# Altium schematic symbol library WL-OSEN.SchLib: 2 symbols
Pins are listed as number, name and electrical type; pins without a type are passive.

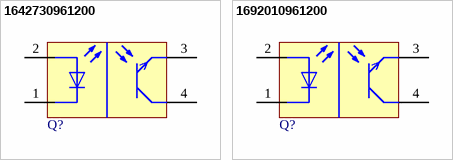
[diagram p0: symbols 1642730961200 to 1692010961200]

## 1642730961200
designator Q?, comment 1.2V, 0.3mA  (value not drawn)
WL-OSEN Optical Sensor - Reflective, SMT, size 2734, 1.2V, 0.3mA; Manufacturer Part Number: 1642730961200; Manufacturer: Wurth Elektronik; Case/Size Code: 2734; Forward Voltage Max: 1.6V; Collector Current Min: 0.1mA; Category: Optical Sensors; Match Code: WL-OSEN; ComponentLink1Description: Website Link; ComponentLink1URL: https://www.we-online.com/redexpert/article/1642730961200?ad; ComponentLink2Description: Datasheet Link; ComponentLink2URL: https://www.we-online.com/redexpert/spec/1642730961200?ad; Mount: Surface Mount; Operating Temperature Max: 85°C; Operating Temperature Min: -40°C; Packaging: Tape and Reel; Length: 3.4mm; Width: 2.7mm; Height: 1.5mm; Forward Voltage: 1.2V; Collector Current: 0.3mA
footprint WL-OSEN_2734
pins: 1 Cathode, 2 Anode, 3 Emitter, 4 Collector

## 1692010961200
designator Q?, comment 1.9V, 3mA  (value not drawn)
WL-OSEN Optical Sensor - Reflective, SMT, size 2016, 1.9V, 3mA; Manufacturer Part Number: 1692010961200; Manufacturer: Wurth Elektronik; Case/Size Code: 2016; Forward Voltage Max: 2.5V; Collector Current Min: 0.5mA; Category: Optical Sensors; Match Code: WL-OSEN; ComponentLink1Description: Website Link; ComponentLink1URL: https://www.we-online.com/redexpert/article/1692010961200?ad; ComponentLink2Description: Datasheet Link; ComponentLink2URL: https://www.we-online.com/redexpert/spec/1692010961200?ad; Mount: Surface Mount; Operating Temperature Max: 85°C; Operating Temperature Min: -40°C; Packaging: Tape and Reel; Length: 2mm; Width: 1.6mm; Height: 0.75mm; Forward Voltage: 1.9V; Collector Current: 3mA
footprint WL-OSEN_2016
pins: 1 Cathode, 2 Anode, 3 Emitter, 4 Collector